# Altium schematic symbol library Crystals.SchLib: 6 symbols
Pins are listed as number, name and electrical type; pins without a type are passive.

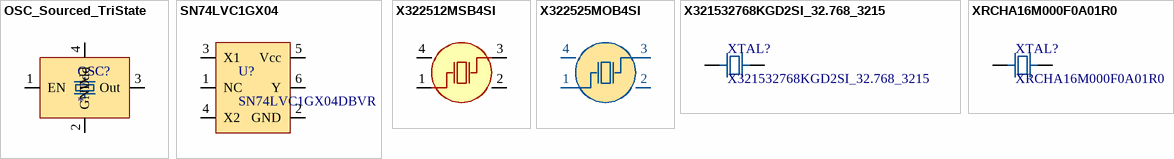
[diagram p0: symbols OSC_Sourced_TriState to XRCHA16M000F0A01R0]

## OSC_Sourced_TriState
designator OSC?
Type: *
footprint SMD_7050_Crystal
pins: 1 EN, 2 GND, 3 Out, 4 Vdd

## SN74LVC1GX04
designator U?, comment SN74LVC1GX04DBVR
Crystal Driver; Type: SN74LVC1GX04DBVR
footprint SOT95P280X145-6N_SOT23_6pin (SOT23, 6-Leads, Body 2.90x2.80mm, Pitch 0.95mm, IPC Medium Density)
pins: 1 NC, 2 GND, 3 X1, 4 X2, 5 Vcc, 6 Y

## X322512MSB4SI
designator X??  (value not drawn)
C9002; Manufacturer: YXC(扬兴晶振); Add into BOM: yes; Crystal Type: 贴片晶振; Value: 12MHz; Normal temperature Frequency Tolerance: ±10ppm; External load capacitor: 20pF; Frequency Stability(Full temperature range): ±20ppm; Symbol: X322512MSB4SI; Device: X322512MSB4SI; LCSC Part Name: 12MHz ±10ppm 20pF; Supplier Part: C9002; Manufacturer Part: X322512MSB4SI; Supplier Footprint: SMD3225-4P; JLCPCB Part Class: Basic Part; Datasheet: https://atta.szlcsc.com/upload/public/pdf/source/20240329/19D5F850207469550BEB00D7DFEDBC7A.pdf; Supplier: LCSC; Convert to PCB: yes; Operating Temperature: -40℃~+85℃
footprint OSC-SMD_4P-L3.2-W2.5-BL
pins: 1 OSC1, 2 GND, 3 OSC2, 4 GND

## X322525MOB4SI
designator X??  (value not drawn)
频率:25MHz;频率公差:±10ppm;负载电容:12pF;; Manufacturer: YXC(扬兴晶振); Name: 25MHz; Add into BOM: yes; Crystal Type: 贴片无源晶振; Value: 25MHz; Frequency Tolerance: ±10ppm; Frequency Stability: ±30ppm; Load Capacitance: 12pF; Symbol: X322525MOB4SI; Device: X322525MOB4SI; LCSC Part Name: 25MHz ±10ppm 12pF YSX321SL; Supplier Part: C9006; Manufacturer Part: X322525MOB4SI; Supplier Footprint: SMD3225-4P; Datasheet: https://atta.szlcsc.com/upload/public/pdf/source/20210329/C112971_1F611BDC486E193C1706F6D8EB5AA189.pdf; Supplier: LCSC; Convert to PCB: yes; Operating Temperature: -40℃~+85℃
footprint OSC-SMD_4P-L3.2-W2.5-BL
3D model OSC-SMD_4P-L3.2-W2.5-H1.0
pins: 1 OSC1, 2 GND, 3 OSC2, 4 GND

## X321532768KGD2SI_32.768_3215
designator XTAL?
2P 32.768MHz 3215; Type: X321532768KGD2SI_32.768_3215
footprint SMD_3215_2p
footprint HC-49SMD
footprint SMD_5032-_2P
footprint SMD-2520-2P
pins: 1, 2

## XRCHA16M000F0A01R0
designator XTAL?
2P 16MHz; Type: XRCHA16M000F0A01R0
footprint SMD_3215_2p
footprint HC-49SMD
footprint SMD_5032-_2P
footprint SMD-2520-2P
pins: 1, 2